# EAGLE library part DSPIC33FJ16GS502-I/SO (library Microchip_By_element14_Batch_1)
16-bit Digital Signal Controllers
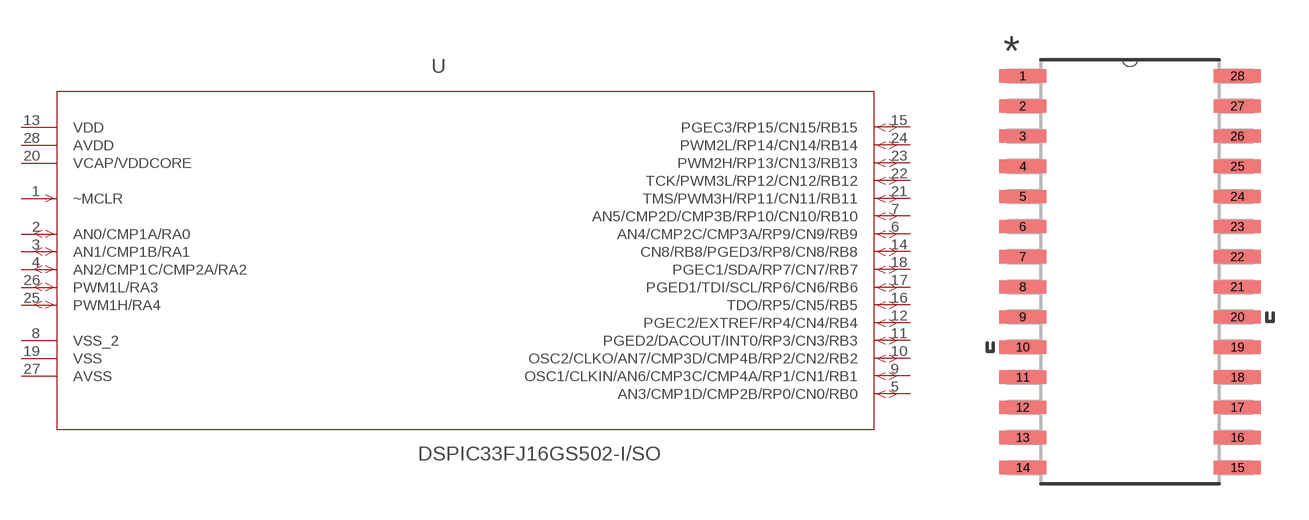
[diagram p381: symbol with the pads of SOIC127P1030X265-28N; footprint SOIC127P1030X265-28N]

Designator prefix -

## DSPIC33FJ16GS502-I/SO (MPN: DSPIC33FJ16GS502-I/SO; OC_FARNELL: 1778686; OC_NEWARK: 77M2354; PACKAGE: SOIC-28; SUPPLIER: Microchip)  [SOIC127P1030X265-28N]
1  ~MCLR  in
2  AN0/CMP1A/RA0
3  AN1/CMP1B/RA1
4  AN2/CMP1C/CMP2A/RA2
5  AN3/CMP1D/CMP2B/RP0/CN0/RB0
6  AN4/CMP2C/CMP3A/RP9/CN9/RB9
7  AN5/CMP2D/CMP3B/RP10/CN10/RB10
8  VSS_2  pwr
9  OSC1/CLKIN/AN6/CMP3C/CMP4A/RP1/CN1/RB1
10  OSC2/CLKO/AN7/CMP3D/CMP4B/RP2/CN2/RB2
11  PGED2/DACOUT/INT0/RP3/CN3/RB3
12  PGEC2/EXTREF/RP4/CN4/RB4
13  VDD  pwr
14  CN8/RB8/PGED3/RP8/CN8/RB8
15  PGEC3/RP15/CN15/RB15
16  TDO/RP5/CN5/RB5
17  PGED1/TDI/SCL/RP6/CN6/RB6
18  PGEC1/SDA/RP7/CN7/RB7
19  VSS  pwr
20  VCAP/VDDCORE  pwr
21  TMS/PWM3H/RP11/CN11/RB11
22  TCK/PWM3L/RP12/CN12/RB12
23  PWM2H/RP13/CN13/RB13
24  PWM2L/RP14/CN14/RB14
25  PWM1H/RA4
26  PWM1L/RA3
27  AVSS  pwr
28  AVDD  pwr

## Footprint SOIC127P1030X265-28N (pad centres in mm)
smd 1.981 x 0.559: 1 -4.521,8.255; 2 -4.521,6.985; 3 -4.521,5.715; 4 -4.521,4.445; 5 -4.521,3.175; 6 -4.521,1.905; 7 -4.521,0.635; 8 -4.521,-0.635; 9 -4.521,-1.905; 10 -4.521,-3.175; 11 -4.521,-4.445; 12 -4.521,-5.715; 13 -4.521,-6.985; 14 -4.521,-8.255; 15 4.521,-8.255; 16 4.521,-6.985; 17 4.521,-5.715; 18 4.521,-4.445; 19 4.521,-3.175; 20 4.521,-1.905; 21 4.521,-0.635; 22 4.521,0.635; 23 4.521,1.905; 24 4.521,3.175; 25 4.521,4.445; 26 4.521,5.715; 27 4.521,6.985; 28 4.521,8.255